# Altium schematic symbol library L_CORE.Schlib: 1 symbol
Pins are listed as number, name and electrical type; pins without a type are passive.

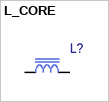
[diagram p0: symbol L_CORE]

## L_CORE
designator L?, comment L  (value not drawn)
Induction
pins: 1, 2
1 alternate drawing of the same symbol